# Altium schematic symbol library SCH - PASSIVES - POTENTIOMETER.SCHLIB: 1 symbol
Pins are listed as number, name and electrical type; pins without a type are passive.

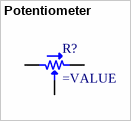
[diagram p0: symbol Potentiometer]

## Potentiometer
designator R?
Potentiometer
footprint POT BOURNS TRIMPOT TC33X-1 (Bourns Trimpot TC33X-1 - Open Frame 3mm x 3.8mm x 1.2mm)
pins: 1, 2, 3